# Altium schematic symbol library SCH - PASSIVES - FERRITE CHIP.SCHLIB: 1 symbol
Pins are listed as number, name and electrical type; pins without a type are passive.

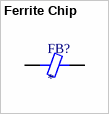
[diagram p0: symbol Ferrite Chip]

## Ferrite Chip
designator FB?
SMT Ferrite Chip
footprint FER 0805/2012 (Chip Ferrite, 2-Leads, Body 2.00x1.20mm, IPC Medium Density)
pins: 1, 2